# Altium footprint library Conn.Misc.PcbLib: 57 footprints (part 2 of 4)
Each footprint in its own frame and in the unit in brackets; x right, y up, seen from the top. Pads: shape width x height; smd on the part's side, far side on the other; paste and mask are expansions set on the pad; w line width, h text height; cw(c..) or ccw(c..) is an arc to the next point about the centre after c.
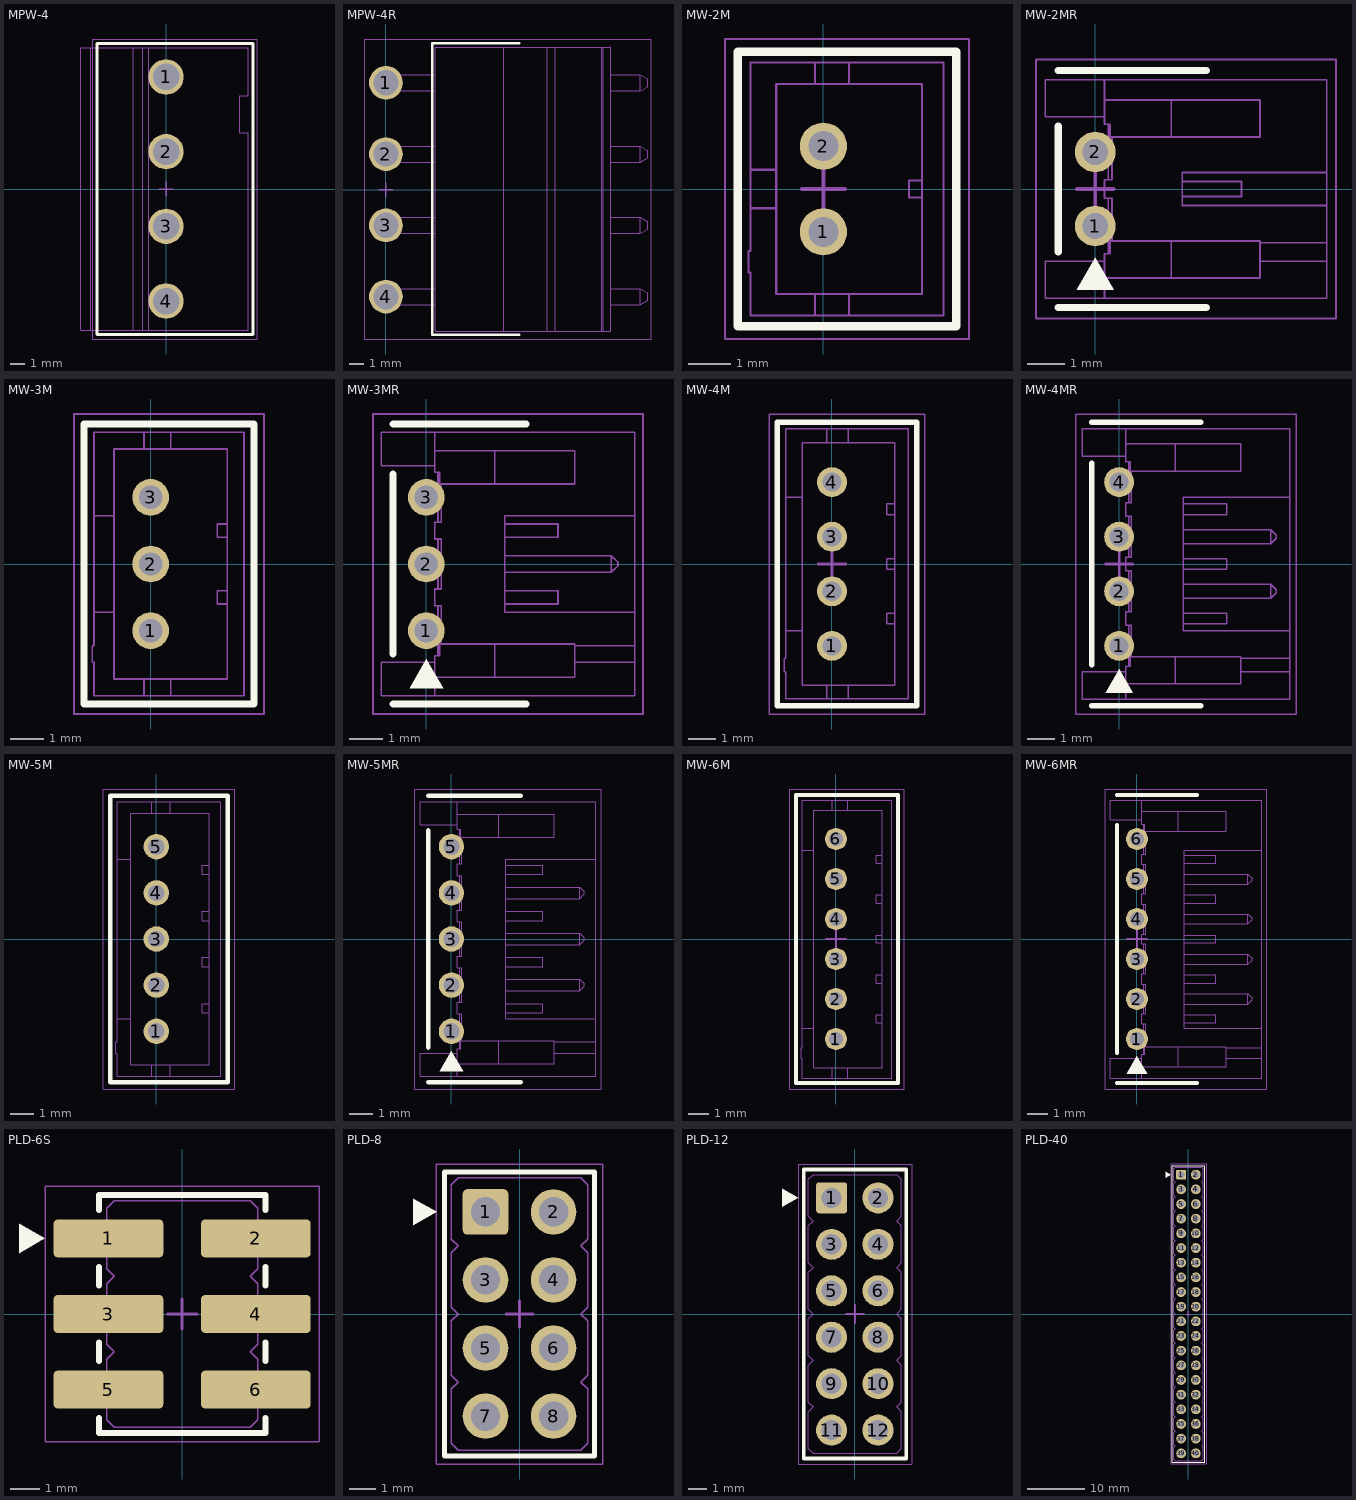
[diagram p1: the footprints below, top view; thin cyan lines are the x and y axes]

## MPW-4 [mm] "MPW Header, 4-Pin, 5.08 PItch"
height 17.5
pads (4):
  round 2.4 hole 1.8: 1(0,7.62) 2(0,2.54) 3(0,-2.54) 4(0,-7.62)
Top Overlay:
  lines w0.2: -4.7,-9.9 -4.7,9.9 5.9,9.9 5.9,-9.9 -4.7,-9.9
Bottom Overlay:
  region: 0,9.13 0.5,9.996 -0.5,9.996
Mechanical 1:
  lines w0.05: -5.11,-9.62 -5.11,9.62 ; -2.221,-9.62 -2.221,9.62 ; -1.6,-9.62 -1.6,9.62 ; -1.169,-9.62 -1.169,9.62 ; -0.57,-8.19 -0.57,-7.05 ; -0.57,-8.19 -0.279,-7.899 ; -0.57,-8.19 0.57,-8.19 ; -0.57,-7.05 -0.279,-7.341 ; -0.57,-7.05 0.57,-7.05 ; -0.57,-3.11 -0.57,-1.97 ; -0.57,-3.11 -0.279,-2.819 ; -0.57,-3.11 0.57,-3.11 ; -0.57,-1.97 -0.279,-2.261 ; -0.57,-1.97 0.57,-1.97 ; -0.57,1.97 -0.57,3.11 ; -0.57,1.97 -0.279,2.261 ; -0.57,1.97 0.57,1.97 ; -0.57,3.11 0.57,3.11 ; -0.57,3.11 -0.279,2.819 ; -0.57,7.05 -0.57,8.19 ; -0.57,7.05 -0.279,7.341 ; -0.57,7.05 0.57,7.05 ; -0.57,8.19 0.57,8.19 ; -0.57,8.19 -0.279,7.899 ; -0.279,-7.899 -0.279,-7.341 ; -0.279,-7.899 0.279,-7.899 ; -0.279,-7.341 0.279,-7.341 ; -0.279,-2.819 -0.279,-2.261 ; -0.279,-2.819 0.279,-2.819 ; -0.279,-2.261 0.279,-2.261 ; -0.279,2.261 -0.279,2.819 ; -0.279,2.261 0.279,2.261 ; -0.279,2.819 0.279,2.819 ; -0.279,7.341 -0.279,7.899 ; -0.279,7.341 0.279,7.341 ; -0.279,7.899 0.279,7.899 ; 0.279,-7.899 0.279,-7.341 ; 0.279,-7.899 0.57,-8.19 ; 0.279,-7.341 0.57,-7.05 ; 0.279,-2.819 0.279,-2.261 ; 0.279,-2.819 0.57,-3.11 ; 0.279,-2.261 0.57,-1.97 ; 0.279,2.261 0.279,2.819 ; 0.279,2.261 0.57,1.97 ; 0.279,2.819 0.57,3.11 ; 0.279,7.341 0.279,7.899 ; 0.279,7.341 0.57,7.05 ; 0.279,7.899 0.57,8.19 ; 0.57,-8.19 0.57,-7.05 ; 0.57,-3.11 0.57,-1.97 ; 0.57,1.97 0.57,3.11 ; 0.57,7.05 0.57,8.19 ; -5.8,-9.62 5.6,-9.62 5.6,3.83 5,3.83 5,6.33 5.6,6.33 5.6,9.62 -5.8,9.62 -5.8,-9.62
Mechanical 15:
  lines w0.05: -5,-10.2 6.2,-10.2 6.2,10.2 -5,10.2 -5,-10.2
  lines w0.1: -0.5,0 0.5,0 ; 0,-0.5 0,0.5
3D body "SPOX 01032-1041.STEP": height 13.85, standoff -3.6, extent -5.8,-9.62 5.6,9.62

## MPW-4R [mm] "MPW Header, 3-Pin, 5.08 PItch, Right Angle"
height 9.6
pads (4):
  round 2.4 hole 1.8: 1(0,7.62) 2(0,2.54) 3(0,-2.54) 4(0,-7.62)
Top Overlay:
  region: 0,6.59 -0.5,7.456 0.5,7.456
  lines w0.2: 9.5,-10.34 3.3,-10.34 3.3,10.44 9.5,10.44
Mechanical 1:
  lines w0.05: 3.5,-8.19 1.5,-8.19 -0.54,-8.19 cw(c-0.54,-8.16) -0.57,-8.16 -0.57,-7.08 cw(c-0.54,-7.08) -0.54,-7.05 3.5,-7.05 ; 3.5,-3.11 1.5,-3.11 -0.54,-3.11 cw(c-0.54,-3.08) -0.57,-3.08 -0.57,-2 cw(c-0.54,-2) -0.54,-1.97 3.5,-1.97 ; 3.5,1.97 1.5,1.97 -0.54,1.97 cw(c-0.54,2) -0.57,2 -0.57,3.08 cw(c-0.54,3.08) -0.54,3.11 3.5,3.11 ; 3.5,7.05 1.5,7.05 -0.54,7.05 cw(c-0.54,7.08) -0.57,7.08 -0.57,8.16 cw(c-0.54,8.16) -0.54,8.19 3.5,8.19 ; 8.4,-10.08 8.4,10.16 ; 11.513,-10.08 11.513,10.16 ; 12.072,-10.08 12.072,10.16 ; 15.398,-10.08 15.398,10.16 ; 15.474,-10.08 15.474,10.16 ; 16.026,-8.19 18.131,-8.19 ; 16.026,-7.05 18.131,-7.05 ; 16.026,-3.11 18.131,-3.11 ; 16.026,-1.97 18.131,-1.97 ; 16.026,1.97 18.131,1.97 ; 16.026,3.11 18.131,3.11 ; 16.026,7.05 18.131,7.05 ; 16.026,8.19 18.131,8.19 ; 18.131,-8.19 18.65,-7.89 18.65,-7.35 18.131,-7.05 ; 18.131,-8.19 18.131,-7.05 ; 18.131,-3.11 18.65,-2.81 18.65,-2.27 18.131,-1.97 ; 18.131,-3.11 18.131,-1.97 ; 18.131,1.97 18.65,2.27 18.65,2.81 18.131,3.11 ; 18.131,1.97 18.131,3.11 ; 18.131,7.05 18.65,7.35 18.65,7.89 18.131,8.19 ; 18.131,7.05 18.131,8.19 ; 3.5,-10.025 ccw(c3.555,-10.025) 3.555,-10.08 15.971,-10.08 ccw(c15.971,-10.025) 16.026,-10.025 16.026,10.105 ccw(c15.971,10.105) 15.971,10.16 3.555,10.16 ccw(c3.555,10.105) 3.5,10.105 3.5,-10.025
Mechanical 15:
  lines w0.05: -1.5,-10.64 18.9,-10.64 18.9,10.74 -1.5,10.74 -1.5,-10.64
  lines w0.1: -0.5,0 0.5,0 ; 0,-0.5 0,0.5
3D body "CI5504P1H00.STEP": height 9.6, standoff -3.6, extent -0.57,-10.08 18.65,10.16

## MW-2M [mm] "MW Header, 2-Pin, 2.00mm Pitch"
height 6
pads (2):
  round 1.1 hole 0.7: 1(0,-1) 2(0,1)
Top Overlay:
  lines w0.2: -2,-3.2 3.1,-3.2 3.1,3.2 -2,3.2 -2,-3.2
Bottom Overlay:
  region: 0,-1.86 -0.5,-2.726 0.5,-2.726
Mechanical 1:
  lines w0.05: -1.7,-0.45 -1.1,-0.45 ; -1.7,0.45 -1.1,0.45 ; -0.2,-2.95 -0.2,-2.45 ; -0.2,2.45 -0.2,2.95 ; 0.6,-2.95 0.6,-2.45 ; 0.6,2.45 0.6,2.95 ; 2.3,-0.2 2,-0.2 2,0.2 2.3,0.2 ; -0.25,-1.25 0.25,-1.25 ; -0.25,-1.25 -0.25,-0.75 ; -0.25,-1.25 -0.05,-1.05 ; -0.25,-0.75 0.25,-0.75 ; -0.25,-0.75 -0.05,-0.95 ; -0.25,0.75 -0.25,1.25 ; -0.25,0.75 -0.05,0.95 ; -0.25,0.75 0.25,0.75 ; -0.25,1.25 0.25,1.25 ; -0.25,1.25 -0.05,1.05 ; -0.05,-1.05 -0.05,-0.95 ; -0.05,-1.05 0.05,-1.05 ; -0.05,-0.95 0.05,-0.95 ; -0.05,0.95 -0.05,1.05 ; -0.05,0.95 0.05,0.95 ; -0.05,1.05 0.05,1.05 ; 0.05,-1.05 0.05,-0.95 ; 0.05,-1.05 0.25,-1.25 ; 0.05,-0.95 0.25,-0.75 ; 0.05,0.95 0.25,0.75 ; 0.05,0.95 0.05,1.05 ; 0.05,1.05 0.25,1.25 ; 0.25,-1.25 0.25,-0.75 ; 0.25,0.75 0.25,1.25 ; -1.75,-1.95 -1.7,-1.95 -1.7,-2.95 2.8,-2.95 2.8,2.95 -1.7,2.95 -1.7,-1.45 -1.75,-1.45 -1.75,-1.95 ; -1.1,-2.45 -1.1,2.45 2.3,2.45 2.3,-2.45 -1.1,-2.45
Mechanical 15:
  lines w0.05: -2.3,-3.5 -2.3,3.5 3.4,3.5 3.4,-3.5 -2.3,-3.5
  lines w0.1: -0.5,0 0.5,0 ; 0,-0.5 0,0.5
3D body "JST_PH_B2B-PH-K_1x02_P2.00mm_Vertical.step": height 6, standoff -3.4, extent -1.75,-2.95 2.8,2.95

## MW-2MR [mm] "MW Header, 2-Pin, 2.00mm Pitch, Right Angle Mount"
height 4.5
pads (2):
  round 1.1 hole 0.7: 1(0,-1) 2(0,1)
Top Overlay:
  region: 0,-1.86 0.5,-2.726 -0.5,-2.726
  lines w0.2: -1,-3.2 3,-3.2 ; -1,-1.7 -1,1.7 ; -1,3.2 3,3.2
Mechanical 1:
  lines w0.05: 0.25,-2.95 0.25,-1.75 0.4,-1.75 0.4,-1.4 4.45,-1.4 4.45,-2.4 0.25,-2.4 ; 0.25,-1.95 -1.35,-1.95 -1.35,-2.95 6.25,-2.95 6.25,2.95 -1.35,2.95 -1.35,1.95 0.25,1.95 ; 0.25,2.4 4.45,2.4 4.45,1.4 0.4,1.4 0.4,1.75 0.25,1.75 0.25,2.95 ; 0.35,-1.75 0.35,-0.25 ; 0.35,-1.25 -0.25,-1.25 -0.25,-0.75 0.35,-0.75 ; 0.35,0.25 0.35,1.75 ; 0.35,0.75 -0.25,0.75 -0.25,1.25 0.35,1.25 ; 0.45,-1.4 0.45,-0.25 0.25,-0.25 0.25,0.25 0.45,0.25 0.45,1.4 ; 2.05,-2.4 2.05,-1.4 ; 2.05,1.4 2.05,2.4 ; 2.35,-0.2 3.95,-0.2 3.95,0.2 2.35,0.2 ; 4.45,-1.95 6.25,-1.95 ; 4.45,-1.45 6.25,-1.45 ; 6.25,-0.45 2.35,-0.45 2.35,0.45 6.25,0.45
Mechanical 15:
  lines w0.05: -1.6,-3.5 -1.6,3.5 6.5,3.5 6.5,-3.5 -1.6,-3.5
  lines w0.1: -0.5,0 0.5,0 ; 0,-0.5 0,0.5
3D body "JST_PH_S2B-PH-K_1x02_P2.00mm_Horizontal.step": height 4.85, standoff -3.4, extent -1.35,-2.95 6.25,2.95

## MW-3M [mm] "MW Header, 3-Pin, 2.00mm Pitch"
height 6
pads (3):
  round 1.1 hole 0.7: 1(0,-2) 2(0,0) 3(0,2)
Top Overlay:
  lines w0.2: -2,-4.2 -2,4.2 3.1,4.2 3.1,-4.2 -2,-4.2
Bottom Overlay:
  region: 0,-2.86 -0.5,-3.726 0.5,-3.726
Mechanical 1:
  lines w0.05: -1.7,-1.45 -1.1,-1.45 ; -1.7,1.45 -1.1,1.45 ; -0.2,-3.95 -0.2,-3.45 ; -0.2,3.45 -0.2,3.95 ; 0.6,-3.95 0.6,-3.45 ; 0.6,3.45 0.6,3.95 ; 2.3,-1.2 2,-1.2 2,-0.8 2.3,-0.8 ; 2.3,0.8 2,0.8 2,1.2 2.3,1.2 ; -0.25,-2.25 0.25,-2.25 ; -0.25,-2.25 -0.25,-1.75 ; -0.25,-2.25 -0.05,-2.05 ; -0.25,-1.75 0.25,-1.75 ; -0.25,-1.75 -0.05,-1.95 ; -0.25,-0.25 0.25,-0.25 ; -0.25,-0.25 -0.25,0.25 ; -0.25,-0.25 -0.05,-0.05 ; -0.25,0.25 0.25,0.25 ; -0.25,0.25 -0.05,0.05 ; -0.25,1.75 0.25,1.75 ; -0.25,1.75 -0.25,2.25 ; -0.25,1.75 -0.05,1.95 ; -0.25,2.25 0.25,2.25 ; -0.25,2.25 -0.05,2.05 ; -0.05,-2.05 -0.05,-1.95 ; -0.05,-2.05 0.05,-2.05 ; -0.05,-1.95 0.05,-1.95 ; -0.05,-0.05 -0.05,0.05 ; -0.05,-0.05 0.05,-0.05 ; -0.05,0.05 0.05,0.05 ; -0.05,1.95 -0.05,2.05 ; -0.05,1.95 0.05,1.95 ; -0.05,2.05 0.05,2.05 ; 0.05,-2.05 0.25,-2.25 ; 0.05,-2.05 0.05,-1.95 ; 0.05,-1.95 0.25,-1.75 ; 0.05,-0.05 0.25,-0.25 ; 0.05,-0.05 0.05,0.05 ; 0.05,0.05 0.25,0.25 ; 0.05,1.95 0.25,1.75 ; 0.05,1.95 0.05,2.05 ; 0.05,2.05 0.25,2.25 ; 0.25,-2.25 0.25,-1.75 ; 0.25,-0.25 0.25,0.25 ; 0.25,1.75 0.25,2.25 ; -1.75,-2.95 -1.75,-2.45 -1.7,-2.45 -1.7,3.95 2.8,3.95 2.8,-3.95 -1.7,-3.95 -1.7,-2.95 -1.75,-2.95 ; -1.1,-3.45 -1.1,3.45 2.3,3.45 2.3,-3.45 -1.1,-3.45
Mechanical 15:
  lines w0.05: -2.3,-4.5 3.4,-4.5 3.4,4.5 -2.3,4.5 -2.3,-4.5
  lines w0.1: -0.5,0 0.5,0 ; 0,-0.5 0,0.5
3D body "JST_PH_B3B-PH-K_1x03_P2.00mm_Vertical.step": height 6, standoff -3.4, extent -1.75,-3.95 2.8,3.95

## MW-3MR [mm] "MW Header, 3-Pin, 2.00mm Pitch, Right Angle Mount"
height 4.5
pads (3):
  round 1.1 hole 0.7: 1(0,-2) 2(0,0) 3(0,2)
Top Overlay:
  region: 0,-2.86 0.5,-3.726 -0.5,-3.726
  lines w0.2: -1,-4.2 3,-4.2 ; -1,-2.7 -1,2.7 ; -1,4.2 3,4.2
Mechanical 1:
  lines w0.05: 0.25,-3.95 0.25,-2.75 0.4,-2.75 0.4,-2.4 4.45,-2.4 4.45,-3.4 0.25,-3.4 ; 0.25,-2.95 -1.35,-2.95 -1.35,-3.95 6.25,-3.95 6.25,3.95 -1.35,3.95 -1.35,2.95 0.25,2.95 ; 0.25,3.4 4.45,3.4 4.45,2.4 0.4,2.4 0.4,2.75 0.25,2.75 0.25,3.95 ; 0.35,-2.75 0.35,-1.25 ; 0.35,-2.25 -0.25,-2.25 -0.25,-1.75 0.35,-1.75 ; 0.35,-0.75 0.35,0.75 ; 0.35,-0.25 -0.25,-0.25 -0.25,0.25 0.35,0.25 ; 0.35,1.25 0.35,2.75 ; 0.35,1.75 -0.25,1.75 -0.25,2.25 0.35,2.25 ; 0.45,-2.4 0.45,-1.25 0.25,-1.25 0.25,-0.75 0.45,-0.75 0.45,0.75 0.25,0.75 0.25,1.25 0.45,1.25 0.45,2.4 ; 2.05,-3.4 2.05,-2.4 ; 2.05,2.4 2.05,3.4 ; 2.35,-1.2 3.95,-1.2 3.95,-0.8 2.35,-0.8 ; 2.35,-0.25 5.55,-0.25 ; 2.35,0.25 5.55,0.25 ; 2.35,0.8 3.95,0.8 3.95,1.2 2.35,1.2 ; 4.45,-2.95 6.25,-2.95 ; 4.45,-2.45 6.25,-2.45 ; 6.25,-1.45 2.35,-1.45 2.35,1.45 6.25,1.45 ; 5.55,-0.25 5.75,-0.05 5.75,0.05 5.55,0.25 ; 5.55,-0.25 5.55,0.25
Mechanical 15:
  lines w0.05: -1.6,-4.5 6.5,-4.5 6.5,4.5 -1.6,4.5 -1.6,-4.5
  lines w0.1: -0.5,0 0.5,0 ; 0,-0.5 0,0.5
3D body "JST_PH_S3B-PH-K_1x03_P2.00mm_Horizontal.step": height 4.85, standoff -3.4, extent -1.35,-3.95 6.25,3.95

## MW-4M [mm] "MW Header, 4-Pin, 2.00mm Pitch"
height 6
pads (4):
  round 1.1 hole 0.7: 1(0,-3) 2(0,-1) 3(0,1) 4(0,3)
Top Overlay:
  lines w0.2: -2,-5.2 3.1,-5.2 3.1,5.2 -2,5.2 -2,-5.2
Bottom Overlay:
  region: 0,-3.86 -0.5,-4.726 0.5,-4.726
Mechanical 1:
  lines w0.05: -1.7,-2.45 -1.1,-2.45 ; -1.7,2.45 -1.1,2.45 ; -0.2,-4.95 -0.2,-4.45 ; -0.2,4.45 -0.2,4.95 ; 0.6,-4.95 0.6,-4.45 ; 0.6,4.45 0.6,4.95 ; 2.3,-2.2 2,-2.2 2,-1.8 2.3,-1.8 ; 2.3,-0.2 2,-0.2 2,0.2 2.3,0.2 ; 2.3,1.8 2,1.8 2,2.2 2.3,2.2 ; -0.25,-3.25 -0.25,-2.75 ; -0.25,-3.25 -0.05,-3.05 ; -0.25,-3.25 0.25,-3.25 ; -0.25,-2.75 0.25,-2.75 ; -0.25,-2.75 -0.05,-2.95 ; -0.25,-1.25 0.25,-1.25 ; -0.25,-1.25 -0.25,-0.75 ; -0.25,-1.25 -0.05,-1.05 ; -0.25,-0.75 0.25,-0.75 ; -0.25,-0.75 -0.05,-0.95 ; -0.25,0.75 -0.25,1.25 ; -0.25,0.75 -0.05,0.95 ; -0.25,0.75 0.25,0.75 ; -0.25,1.25 0.25,1.25 ; -0.25,1.25 -0.05,1.05 ; -0.25,2.75 -0.25,3.25 ; -0.25,2.75 -0.05,2.95 ; -0.25,2.75 0.25,2.75 ; -0.25,3.25 0.25,3.25 ; -0.25,3.25 -0.05,3.05 ; -0.05,-3.05 0.05,-3.05 ; -0.05,-3.05 -0.05,-2.95 ; -0.05,-2.95 0.05,-2.95 ; -0.05,-1.05 0.05,-1.05 ; -0.05,-1.05 -0.05,-0.95 ; -0.05,-0.95 0.05,-0.95 ; -0.05,0.95 -0.05,1.05 ; -0.05,0.95 0.05,0.95 ; -0.05,1.05 0.05,1.05 ; -0.05,2.95 0.05,2.95 ; -0.05,2.95 -0.05,3.05 ; -0.05,3.05 0.05,3.05 ; 0.05,-3.05 0.05,-2.95 ; 0.05,-3.05 0.25,-3.25 ; 0.05,-2.95 0.25,-2.75 ; 0.05,-1.05 0.25,-1.25 ; 0.05,-1.05 0.05,-0.95 ; 0.05,-0.95 0.25,-0.75 ; 0.05,0.95 0.05,1.05 ; 0.05,0.95 0.25,0.75 ; 0.05,1.05 0.25,1.25 ; 0.05,2.95 0.25,2.75 ; 0.05,2.95 0.05,3.05 ; 0.05,3.05 0.25,3.25 ; 0.25,-3.25 0.25,-2.75 ; 0.25,-1.25 0.25,-0.75 ; 0.25,0.75 0.25,1.25 ; 0.25,2.75 0.25,3.25 ; -1.75,-3.95 -1.7,-3.95 -1.7,-4.95 2.8,-4.95 2.8,4.95 -1.7,4.95 -1.7,-3.45 -1.75,-3.45 -1.75,-3.95 ; -1.1,-4.45 2.3,-4.45 2.3,4.45 -1.1,4.45 -1.1,-4.45
Mechanical 15:
  lines w0.05: -2.3,-5.5 -2.3,5.5 3.4,5.5 3.4,-5.5 -2.3,-5.5
  lines w0.1: -0.5,0 0.5,0 ; 0,-0.5 0,0.5
3D body "JST_PH_B4B-PH-K_1x04_P2.00mm_Vertical.step": height 6, standoff -3.4, extent -1.75,-4.95 2.8,4.95

## MW-4MR [mm] "MW Header, 4-Pin, 2.00mm Pitch, Right-Angle"
height 4.5
pads (4):
  round 1.1 hole 0.7: 1(0,-3) 2(0,-1) 3(0,1) 4(0,3)
Top Overlay:
  region: 0,-3.86 0.5,-4.726 -0.5,-4.726
  lines w0.2: -1,-5.2 3,-5.2 ; -1,-3.7 -1,3.7 ; -1,5.2 3,5.2
Mechanical 1:
  lines w0.05: 0.25,-4.95 0.25,-3.75 0.4,-3.75 0.4,-3.4 4.45,-3.4 4.45,-4.4 0.25,-4.4 ; 0.25,-3.95 -1.35,-3.95 -1.35,-4.95 6.25,-4.95 6.25,4.95 -1.35,4.95 -1.35,3.95 0.25,3.95 ; 0.25,4.4 4.45,4.4 4.45,3.4 0.4,3.4 0.4,3.75 0.25,3.75 0.25,4.95 ; 0.35,-3.75 0.35,-2.25 ; 0.35,-3.25 -0.25,-3.25 -0.25,-2.75 0.35,-2.75 ; 0.35,-1.75 0.35,-0.25 ; 0.35,-1.25 -0.25,-1.25 -0.25,-0.75 0.35,-0.75 ; 0.35,0.25 0.35,1.75 ; 0.35,0.75 -0.25,0.75 -0.25,1.25 0.35,1.25 ; 0.35,2.25 0.35,3.75 ; 0.35,2.75 -0.25,2.75 -0.25,3.25 0.35,3.25 ; 0.45,-3.4 0.45,-2.25 0.25,-2.25 0.25,-1.75 0.45,-1.75 0.45,-0.25 0.25,-0.25 0.25,0.25 0.45,0.25 0.45,1.75 0.25,1.75 0.25,2.25 0.45,2.25 0.45,3.4 ; 2.05,-4.4 2.05,-3.4 ; 2.05,3.4 2.05,4.4 ; 2.35,-2.2 3.95,-2.2 3.95,-1.8 2.35,-1.8 ; 2.35,-1.25 5.55,-1.25 ; 2.35,-0.75 5.55,-0.75 ; 2.35,-0.2 3.95,-0.2 3.95,0.2 2.35,0.2 ; 2.35,0.75 5.55,0.75 ; 2.35,1.25 5.55,1.25 ; 2.35,1.8 3.95,1.8 3.95,2.2 2.35,2.2 ; 4.45,-3.95 6.25,-3.95 ; 4.45,-3.45 6.25,-3.45 ; 6.25,-2.45 2.35,-2.45 2.35,2.45 6.25,2.45 ; 5.55,-1.25 5.75,-1.05 5.75,-0.95 5.55,-0.75 ; 5.55,-1.25 5.55,-0.75 ; 5.55,0.75 5.75,0.95 5.75,1.05 5.55,1.25 ; 5.55,0.75 5.55,1.25
Mechanical 15:
  lines w0.05: -1.6,-5.5 -1.6,5.5 6.5,5.5 6.5,-5.5 -1.6,-5.5
  lines w0.1: -0.5,0 0.5,0 ; 0,-0.5 0,0.5
3D body "JST_PH_S4B-PH-K_1x04_P2.00mm_Horizontal.step": height 4.85, standoff -3.4, extent -1.35,-4.95 6.25,4.95

## MW-5M [mm] "MW Header, 5-Pin, 2.00mm Pitch"
height 6
pads (5):
  round 1.1 hole 0.7: 1(0,-4) 2(0,-2) 3(0,0) 4(0,2) 5(0,4)
Top Overlay:
  lines w0.2: -2,-6.2 -2,6.2 3.1,6.2 3.1,-6.2 -2,-6.2
Bottom Overlay:
  region: 0,-4.86 -0.5,-5.726 0.5,-5.726
Mechanical 1:
  lines w0.05: -1.7,-3.45 -1.1,-3.45 ; -1.7,3.45 -1.1,3.45 ; -0.2,-5.95 -0.2,-5.45 ; -0.2,5.45 -0.2,5.95 ; 0.6,-5.95 0.6,-5.45 ; 0.6,5.45 0.6,5.95 ; 2.3,-3.2 2,-3.2 2,-2.8 2.3,-2.8 ; 2.3,-1.2 2,-1.2 2,-0.8 2.3,-0.8 ; 2.3,0.8 2,0.8 2,1.2 2.3,1.2 ; 2.3,2.8 2,2.8 2,3.2 2.3,3.2 ; -0.25,-4.25 0.25,-4.25 ; -0.25,-4.25 -0.25,-3.75 ; -0.25,-4.25 -0.05,-4.05 ; -0.25,-3.75 0.25,-3.75 ; -0.25,-3.75 -0.05,-3.95 ; -0.25,-2.25 -0.25,-1.75 ; -0.25,-2.25 -0.05,-2.05 ; -0.25,-2.25 0.25,-2.25 ; -0.25,-1.75 0.25,-1.75 ; -0.25,-1.75 -0.05,-1.95 ; -0.25,-0.25 -0.25,0.25 ; -0.25,-0.25 -0.05,-0.05 ; -0.25,-0.25 0.25,-0.25 ; -0.25,0.25 0.25,0.25 ; -0.25,0.25 -0.05,0.05 ; -0.25,1.75 -0.25,2.25 ; -0.25,1.75 -0.05,1.95 ; -0.25,1.75 0.25,1.75 ; -0.25,2.25 0.25,2.25 ; -0.25,2.25 -0.05,2.05 ; -0.25,3.75 -0.25,4.25 ; -0.25,3.75 -0.05,3.95 ; -0.25,3.75 0.25,3.75 ; -0.25,4.25 0.25,4.25 ; -0.25,4.25 -0.05,4.05 ; -0.05,-4.05 0.05,-4.05 ; -0.05,-4.05 -0.05,-3.95 ; -0.05,-3.95 0.05,-3.95 ; -0.05,-2.05 -0.05,-1.95 ; -0.05,-2.05 0.05,-2.05 ; -0.05,-1.95 0.05,-1.95 ; -0.05,-0.05 -0.05,0.05 ; -0.05,-0.05 0.05,-0.05 ; -0.05,0.05 0.05,0.05 ; -0.05,1.95 0.05,1.95 ; -0.05,1.95 -0.05,2.05 ; -0.05,2.05 0.05,2.05 ; -0.05,3.95 0.05,3.95 ; -0.05,3.95 -0.05,4.05 ; -0.05,4.05 0.05,4.05 ; 0.05,-4.05 0.25,-4.25 ; 0.05,-4.05 0.05,-3.95 ; 0.05,-3.95 0.25,-3.75 ; 0.05,-2.05 0.05,-1.95 ; 0.05,-2.05 0.25,-2.25 ; 0.05,-1.95 0.25,-1.75 ; 0.05,-0.05 0.05,0.05 ; 0.05,-0.05 0.25,-0.25 ; 0.05,0.05 0.25,0.25 ; 0.05,1.95 0.25,1.75 ; 0.05,1.95 0.05,2.05 ; 0.05,2.05 0.25,2.25 ; 0.05,3.95 0.25,3.75 ; 0.05,3.95 0.05,4.05 ; 0.05,4.05 0.25,4.25 ; 0.25,-4.25 0.25,-3.75 ; 0.25,-2.25 0.25,-1.75 ; 0.25,-0.25 0.25,0.25 ; 0.25,1.75 0.25,2.25 ; 0.25,3.75 0.25,4.25 ; -1.75,-4.95 -1.7,-4.95 -1.7,-5.95 2.8,-5.95 2.8,5.95 -1.7,5.95 -1.7,-4.45 -1.75,-4.45 -1.75,-4.95 ; -1.1,-5.45 2.3,-5.45 2.3,5.45 -1.1,5.45 -1.1,-5.45
Mechanical 15:
  lines w0.05: -2.3,-6.5 3.4,-6.5 3.4,6.5 -2.3,6.5 -2.3,-6.5
  lines w0.1: -0.5,0 0.5,0 ; 0,-0.5 0,0.5
3D body "JST_PH_B5B-PH-K_1x05_P2.00mm_Vertical.step": height 6, standoff -3.4, extent -1.75,-5.95 2.8,5.95

## MW-5MR [mm] "MW Header, 5-Pin, 2.00mm Pitch, Right Angle Mount"
height 4.5
pads (5):
  round 1.1 hole 0.7: 1(0,-4) 2(0,-2) 3(0,0) 4(0,2) 5(0,4)
Top Overlay:
  region: 0,-4.86 0.5,-5.726 -0.5,-5.726
  lines w0.2: -1,-6.2 3,-6.2 ; -1,-4.7 -1,4.7 ; -1,6.2 3,6.2
Mechanical 1:
  lines w0.05: 0.25,-5.95 0.25,-4.75 0.4,-4.75 0.4,-4.4 4.45,-4.4 4.45,-5.4 0.25,-5.4 ; 0.25,-4.95 -1.35,-4.95 -1.35,-5.95 6.25,-5.95 6.25,5.95 -1.35,5.95 -1.35,4.95 0.25,4.95 ; 0.25,5.4 4.45,5.4 4.45,4.4 0.4,4.4 0.4,4.75 0.25,4.75 0.25,5.95 ; 0.35,-4.75 0.35,-3.25 ; 0.35,-4.25 -0.25,-4.25 -0.25,-3.75 0.35,-3.75 ; 0.35,-2.75 0.35,-1.25 ; 0.35,-2.25 -0.25,-2.25 -0.25,-1.75 0.35,-1.75 ; 0.35,-0.75 0.35,0.75 ; 0.35,-0.25 -0.25,-0.25 -0.25,0.25 0.35,0.25 ; 0.35,1.25 0.35,2.75 ; 0.35,1.75 -0.25,1.75 -0.25,2.25 0.35,2.25 ; 0.35,3.25 0.35,4.75 ; 0.35,3.75 -0.25,3.75 -0.25,4.25 0.35,4.25 ; 0.45,-4.4 0.45,-3.25 0.25,-3.25 0.25,-2.75 0.45,-2.75 0.45,-1.25 0.25,-1.25 0.25,-0.75 0.45,-0.75 0.45,0.75 0.25,0.75 0.25,1.25 0.45,1.25 0.45,2.75 0.25,2.75 0.25,3.25 0.45,3.25 0.45,4.4 ; 2.05,-5.4 2.05,-4.4 ; 2.05,4.4 2.05,5.4 ; 2.35,-3.2 3.95,-3.2 3.95,-2.8 2.35,-2.8 ; 2.35,-2.25 5.55,-2.25 ; 2.35,-1.75 5.55,-1.75 ; 2.35,-1.2 3.95,-1.2 3.95,-0.8 2.35,-0.8 ; 2.35,-0.25 5.55,-0.25 ; 2.35,0.25 5.55,0.25 ; 2.35,0.8 3.95,0.8 3.95,1.2 2.35,1.2 ; 2.35,1.75 5.55,1.75 ; 2.35,2.25 5.55,2.25 ; 2.35,2.8 3.95,2.8 3.95,3.2 2.35,3.2 ; 4.45,-4.95 6.25,-4.95 ; 4.45,-4.45 6.25,-4.45 ; 6.25,-3.45 2.35,-3.45 2.35,3.45 6.25,3.45 ; 5.55,-2.25 5.55,-1.75 ; 5.55,-2.25 5.75,-2.05 5.75,-1.95 5.55,-1.75 ; 5.55,-0.25 5.75,-0.05 5.75,0.05 5.55,0.25 ; 5.55,-0.25 5.55,0.25 ; 5.55,1.75 5.75,1.95 5.75,2.05 5.55,2.25 ; 5.55,1.75 5.55,2.25
Mechanical 15:
  lines w0.05: -1.6,-6.5 6.5,-6.5 6.5,6.5 -1.6,6.5 -1.6,-6.5
  lines w0.1: -0.5,0 0.5,0 ; 0,-0.5 0,0.5
3D body "JST_PH_S5B-PH-K_1x05_P2.00mm_Horizontal.step": height 4.85, standoff -3.4, extent -1.35,-5.95 6.25,5.95

## MW-6M [mm] "MW Header, 6-Pin, 2.00mm Pitch"
height 6
pads (6):
  round 1.1 hole 0.7: 1(0,-5) 2(0,-3) 3(0,-1) 4(0,1) 5(0,3) 6(0,5)
Top Overlay:
  lines w0.2: -2,-7.2 -2,7.2 3.1,7.2 3.1,-7.2 -2,-7.2
Bottom Overlay:
  region: 0,-5.86 -0.5,-6.726 0.5,-6.726
Mechanical 1:
  lines w0.05: -1.7,-4.45 -1.1,-4.45 ; -1.7,4.45 -1.1,4.45 ; -0.2,-6.95 -0.2,-6.45 ; -0.2,6.45 -0.2,6.95 ; 0.6,-6.95 0.6,-6.45 ; 0.6,6.45 0.6,6.95 ; 2.3,-4.2 2,-4.2 2,-3.8 2.3,-3.8 ; 2.3,-2.2 2,-2.2 2,-1.8 2.3,-1.8 ; 2.3,-0.2 2,-0.2 2,0.2 2.3,0.2 ; 2.3,1.8 2,1.8 2,2.2 2.3,2.2 ; 2.3,3.8 2,3.8 2,4.2 2.3,4.2 ; -0.25,-5.25 0.25,-5.25 ; -0.25,-5.25 -0.25,-4.75 ; -0.25,-5.25 -0.05,-5.05 ; -0.25,-4.75 0.25,-4.75 ; -0.25,-4.75 -0.05,-4.95 ; -0.25,-3.25 0.25,-3.25 ; -0.25,-3.25 -0.25,-2.75 ; -0.25,-3.25 -0.05,-3.05 ; -0.25,-2.75 0.25,-2.75 ; -0.25,-2.75 -0.05,-2.95 ; -0.25,-1.25 0.25,-1.25 ; -0.25,-1.25 -0.25,-0.75 ; -0.25,-1.25 -0.05,-1.05 ; -0.25,-0.75 0.25,-0.75 ; -0.25,-0.75 -0.05,-0.95 ; -0.25,0.75 -0.25,1.25 ; -0.25,0.75 -0.05,0.95 ; -0.25,0.75 0.25,0.75 ; -0.25,1.25 0.25,1.25 ; -0.25,1.25 -0.05,1.05 ; -0.25,2.75 -0.25,3.25 ; -0.25,2.75 -0.05,2.95 ; -0.25,2.75 0.25,2.75 ; -0.25,3.25 0.25,3.25 ; -0.25,3.25 -0.05,3.05 ; -0.25,4.75 -0.25,5.25 ; -0.25,4.75 -0.05,4.95 ; -0.25,4.75 0.25,4.75 ; -0.25,5.25 0.25,5.25 ; -0.25,5.25 -0.05,5.05 ; -0.05,-5.05 0.05,-5.05 ; -0.05,-5.05 -0.05,-4.95 ; -0.05,-4.95 0.05,-4.95 ; -0.05,-3.05 0.05,-3.05 ; -0.05,-3.05 -0.05,-2.95 ; -0.05,-2.95 0.05,-2.95 ; -0.05,-1.05 0.05,-1.05 ; -0.05,-1.05 -0.05,-0.95 ; -0.05,-0.95 0.05,-0.95 ; -0.05,0.95 -0.05,1.05 ; -0.05,0.95 0.05,0.95 ; -0.05,1.05 0.05,1.05 ; -0.05,2.95 -0.05,3.05 ; -0.05,2.95 0.05,2.95 ; -0.05,3.05 0.05,3.05 ; -0.05,4.95 -0.05,5.05 ; -0.05,4.95 0.05,4.95 ; -0.05,5.05 0.05,5.05 ; 0.05,-5.05 0.05,-4.95 ; 0.05,-5.05 0.25,-5.25 ; 0.05,-4.95 0.25,-4.75 ; 0.05,-3.05 0.25,-3.25 ; 0.05,-3.05 0.05,-2.95 ; 0.05,-2.95 0.25,-2.75 ; 0.05,-1.05 0.05,-0.95 ; 0.05,-1.05 0.25,-1.25 ; 0.05,-0.95 0.25,-0.75 ; 0.05,0.95 0.05,1.05 ; 0.05,0.95 0.25,0.75 ; 0.05,1.05 0.25,1.25 ; 0.05,2.95 0.05,3.05 ; 0.05,2.95 0.25,2.75 ; 0.05,3.05 0.25,3.25 ; 0.05,4.95 0.25,4.75 ; 0.05,4.95 0.05,5.05 ; 0.05,5.05 0.25,5.25 ; 0.25,-5.25 0.25,-4.75 ; 0.25,-3.25 0.25,-2.75 ; 0.25,-1.25 0.25,-0.75 ; 0.25,0.75 0.25,1.25 ; 0.25,2.75 0.25,3.25 ; 0.25,4.75 0.25,5.25 ; -1.75,-5.95 -1.75,-5.45 -1.7,-5.45 -1.7,6.95 2.8,6.95 2.8,-6.95 -1.7,-6.95 -1.7,-5.95 -1.75,-5.95 ; -1.1,-6.45 -1.1,6.45 2.3,6.45 2.3,-6.45 -1.1,-6.45
Mechanical 15:
  lines w0.05: -2.3,-7.5 3.4,-7.5 3.4,7.5 -2.3,7.5 -2.3,-7.5
  lines w0.1: -0.5,0 0.5,0 ; 0,-0.5 0,0.5
3D body "JST_PH_B6B-PH-K_1x06_P2.00mm_Vertical.step": height 6, standoff -3.4, extent -1.75,-6.95 2.8,6.95

## MW-6MR [mm] "MW Header, 6-Pin, 2.00mm Pitch, Right Angle Mount"
height 4.5
pads (6):
  round 1.1 hole 0.7: 1(0,-5) 2(0,-3) 3(0,-1) 4(0,1) 5(0,3) 6(0,5)
Top Overlay:
  region: 0,-5.86 0.5,-6.726 -0.5,-6.726
  lines w0.2: -1,-7.2 3,-7.2 ; -1,-5.7 -1,5.7 ; -1,7.2 3,7.2
Mechanical 1:
  lines w0.05: 0.25,-6.95 0.25,-5.75 0.4,-5.75 0.4,-5.4 4.45,-5.4 4.45,-6.4 0.25,-6.4 ; 0.25,-5.95 -1.35,-5.95 -1.35,-6.95 6.25,-6.95 6.25,6.95 -1.35,6.95 -1.35,5.95 0.25,5.95 ; 0.25,6.4 4.45,6.4 4.45,5.4 0.4,5.4 0.4,5.75 0.25,5.75 0.25,6.95 ; 0.35,-5.75 0.35,-4.25 ; 0.35,-5.25 -0.25,-5.25 -0.25,-4.75 0.35,-4.75 ; 0.35,-3.75 0.35,-2.25 ; 0.35,-3.25 -0.25,-3.25 -0.25,-2.75 0.35,-2.75 ; 0.35,-1.75 0.35,-0.25 ; 0.35,-1.25 -0.25,-1.25 -0.25,-0.75 0.35,-0.75 ; 0.35,0.25 0.35,1.75 ; 0.35,0.75 -0.25,0.75 -0.25,1.25 0.35,1.25 ; 0.35,2.25 0.35,3.75 ; 0.35,2.75 -0.25,2.75 -0.25,3.25 0.35,3.25 ; 0.35,4.25 0.35,5.75 ; 0.35,4.75 -0.25,4.75 -0.25,5.25 0.35,5.25 ; 0.45,-5.4 0.45,-4.25 0.25,-4.25 0.25,-3.75 0.45,-3.75 0.45,-2.25 0.25,-2.25 0.25,-1.75 0.45,-1.75 0.45,-0.25 0.25,-0.25 0.25,0.25 0.45,0.25 0.45,1.75 0.25,1.75 0.25,2.25 0.45,2.25 0.45,3.75 0.25,3.75 0.25,4.25 0.45,4.25 0.45,5.4 ; 2.05,-6.4 2.05,-5.4 ; 2.05,5.4 2.05,6.4 ; 2.35,-4.2 3.95,-4.2 3.95,-3.8 2.35,-3.8 ; 2.35,-3.25 5.55,-3.25 ; 2.35,-2.75 5.55,-2.75 ; 2.35,-2.2 3.95,-2.2 3.95,-1.8 2.35,-1.8 ; 2.35,-1.25 5.55,-1.25 ; 2.35,-0.75 5.55,-0.75 ; 2.35,-0.2 3.95,-0.2 3.95,0.2 2.35,0.2 ; 2.35,0.75 5.55,0.75 ; 2.35,1.25 5.55,1.25 ; 2.35,1.8 3.95,1.8 3.95,2.2 2.35,2.2 ; 2.35,2.75 5.55,2.75 ; 2.35,3.25 5.55,3.25 ; 2.35,3.8 3.95,3.8 3.95,4.2 2.35,4.2 ; 4.45,-5.95 6.25,-5.95 ; 4.45,-5.45 6.25,-5.45 ; 6.25,-4.45 2.35,-4.45 2.35,4.45 6.25,4.45 ; 5.55,-3.25 5.75,-3.05 5.75,-2.95 5.55,-2.75 ; 5.55,-3.25 5.55,-2.75 ; 5.55,-1.25 5.75,-1.05 5.75,-0.95 5.55,-0.75 ; 5.55,-1.25 5.55,-0.75 ; 5.55,0.75 5.75,0.95 5.75,1.05 5.55,1.25 ; 5.55,0.75 5.55,1.25 ; 5.55,2.75 5.75,2.95 5.75,3.05 5.55,3.25 ; 5.55,2.75 5.55,3.25
Mechanical 15:
  lines w0.05: -1.6,-7.5 6.5,-7.5 6.5,7.5 -1.6,7.5 -1.6,-7.5
  lines w0.1: -0.5,0 0.5,0 ; 0,-0.5 0,0.5
3D body "JST_PH_S6B-PH-K_1x06_P2.00mm_Horizontal.step": height 4.85, standoff -3.4, extent -1.35,-6.95 6.25,6.95

## PLD-6S [mil] "PLD Header, 2.54mm Pitch, 6-Lead, Surface Mount"
height 366.14
pads (6):
  rrect20% 145x50 smd: 1(-97.5,100) 2(97.5,100) 3(-97.5,0) 4(97.5,0) 5(-97.5,-100) 6(97.5,-100)
Top Overlay:
  region: -181.81,100 -215.91,119.69 -215.91,80.31
  lines w7.87: -110.24,-137.8 -110.24,-157.48 110.24,-157.48 110.24,-137.8 ; -110.24,-62.2 -110.24,-37.8 ; -110.24,37.8 -110.24,62.2 ; -110.24,137.8 -110.24,157.48 110.24,157.48 110.24,137.8 ; 110.24,-62.2 110.24,-37.8 ; 110.24,37.8 110.24,62.2
Mechanical 1:
  lines w1.97: -100,-112.6 -142.13,-112.6 ; -100,-87.4 -142.13,-87.4 ; -100,-12.6 -142.13,-12.6 ; -100,12.6 -142.13,12.6 ; -100,87.4 -142.13,87.4 ; -100,112.6 -142.13,112.6 ; 100,-112.6 142.13,-112.6 ; 100,-87.4 142.13,-87.4 ; 100,-12.6 142.13,-12.6 ; 100,12.6 142.13,12.6 ; 100,87.4 142.13,87.4 ; 100,112.6 142.13,112.6 ; -142.13,-112.6 -148.43,-106.3 -148.43,-93.7 -142.13,-87.4 ; -142.13,-112.6 -142.13,-87.4 ; -142.13,-12.6 -148.43,-6.3 -148.43,6.3 -142.13,12.6 ; -142.13,-12.6 -142.13,12.6 ; -142.13,87.4 -148.43,93.7 -148.43,106.3 -142.13,112.6 ; -142.13,87.4 -142.13,112.6 ; -62.6,-112.6 -62.6,-87.4 ; -62.6,-112.6 -56.3,-106.3 ; -62.6,-112.6 -37.4,-112.6 ; -62.6,-87.4 -37.4,-87.4 ; -62.6,-87.4 -56.3,-93.7 ; -62.6,-12.6 -62.6,12.6 ; -62.6,-12.6 -56.3,-6.3 ; -62.6,-12.6 -37.4,-12.6 ; -62.6,12.6 -37.4,12.6 ; -62.6,12.6 -56.3,6.3 ; -62.6,87.4 -37.4,87.4 ; -62.6,87.4 -62.6,112.6 ; -62.6,87.4 -56.3,93.7 ; -62.6,112.6 -37.4,112.6 ; -62.6,112.6 -56.3,106.3 ; -56.3,-106.3 -56.3,-93.7 ; -56.3,-106.3 -43.7,-106.3 ; -56.3,-93.7 -43.7,-93.7 ; -56.3,-6.3 -56.3,6.3 ; -56.3,-6.3 -43.7,-6.3 ; -56.3,6.3 -43.7,6.3 ; -56.3,93.7 -56.3,106.3 ; -56.3,93.7 -43.7,93.7 ; -56.3,106.3 -43.7,106.3 ; -43.7,-106.3 -37.4,-112.6 ; -43.7,-106.3 -43.7,-93.7 ; -43.7,-93.7 -37.4,-87.4 ; -43.7,-6.3 -37.4,-12.6 ; -43.7,-6.3 -43.7,6.3 ; -43.7,6.3 -37.4,12.6 ; -43.7,93.7 -37.4,87.4 ; -43.7,93.7 -43.7,106.3 ; -43.7,106.3 -37.4,112.6 ; -37.4,-112.6 -37.4,-87.4 ; -37.4,-12.6 -37.4,12.6 ; -37.4,87.4 -37.4,112.6 ; 37.4,-112.6 37.4,-87.4 ; 37.4,-112.6 43.7,-106.3 ; 37.4,-112.6 62.6,-112.6 ; 37.4,-87.4 62.6,-87.4 ; 37.4,-87.4 43.7,-93.7 ; 37.4,-12.6 37.4,12.6 ; 37.4,-12.6 43.7,-6.3 ; 37.4,-12.6 62.6,-12.6 ; 37.4,12.6 62.6,12.6 ; 37.4,12.6 43.7,6.3 ; 37.4,87.4 37.4,112.6 ; 37.4,87.4 43.7,93.7 ; 37.4,87.4 62.6,87.4 ; 37.4,112.6 62.6,112.6 ; 37.4,112.6 43.7,106.3 ; 43.7,-106.3 56.3,-106.3 ; 43.7,-106.3 43.7,-93.7 ; 43.7,-93.7 56.3,-93.7 ; 43.7,-6.3 56.3,-6.3 ; 43.7,-6.3 43.7,6.3 ; 43.7,6.3 56.3,6.3 ; 43.7,93.7 56.3,93.7 ; 43.7,93.7 43.7,106.3 ; 43.7,106.3 56.3,106.3 ; 56.3,-106.3 62.6,-112.6 ; 56.3,-106.3 56.3,-93.7 ; 56.3,-93.7 62.6,-87.4 ; 56.3,-6.3 62.6,-12.6 ; 56.3,-6.3 56.3,6.3 ; 56.3,6.3 62.6,12.6 ; 56.3,93.7 62.6,87.4 ; 56.3,93.7 56.3,106.3 ; 56.3,106.3 62.6,112.6 ; 62.6,-112.6 62.6,-87.4 ; 62.6,-12.6 62.6,12.6 ; 62.6,87.4 62.6,112.6 ; 142.13,-112.6 148.43,-106.3 148.43,-93.7 142.13,-87.4 ; 142.13,-112.6 142.13,-87.4 ; 142.13,-12.6 142.13,12.6 ; 142.13,-12.6 148.43,-6.3 148.43,6.3 142.13,12.6 ; 142.13,87.4 142.13,112.6 ; 142.13,87.4 148.43,93.7 148.43,106.3 142.13,112.6 ; -100,-140 -100,-60 -90,-50 -100,-40 -100,40 -90,50 -100,60 -100,140 -90,150 90,150 100,140 100,60 90,50 100,40 100,-40 90,-50 100,-60 100,-140 90,-150 -90,-150 -100,-140
Mechanical 15:
  lines w1.97: -181.1,-169.29 181.1,-169.29 181.1,169.29 -181.1,169.29 -181.1,-169.29
  lines w3.94: -19.68,0 19.68,0 ; 0,-19.68 0,19.68
3D body "PinHeader_2x03_P2.54mm_Vertical_SMD.step": height 366.14, standoff 0, extent -148.43,-150 148.43,150

## PLD-8 [mm] "PLD Header, 2.54mm Pitch, 8-Leads"
height 8.54
pads (8):
  rrect20% 1.7x1.7 hole 1.1: 1(-1.27,3.81)
  round 1.7 hole 1.1: 2(1.27,3.81) 3(-1.27,1.27) 4(1.27,1.27) 5(-1.27,-1.27) 6(1.27,-1.27) 7(-1.27,-3.81) 8(1.27,-3.81)
Top Overlay:
  region: -3.095,3.81 -3.961,4.31 -3.961,3.31
  lines w0.2: -2.8,-5.3 2.8,-5.3 2.8,5.3 -2.8,5.3 -2.8,-5.3
Mechanical 1:
  lines w0.05: -1.59,-4.13 -1.43,-3.97 ; -1.59,-4.13 -1.59,-3.49 ; -1.59,-4.13 -0.95,-4.13 ; -1.59,-3.49 -1.43,-3.65 ; -1.59,-3.49 -0.95,-3.49 ; -1.59,-1.59 -0.95,-1.59 ; -1.59,-1.59 -1.43,-1.43 ; -1.59,-1.59 -1.59,-0.95 ; -1.59,-0.95 -1.43,-1.11 ; -1.59,-0.95 -0.95,-0.95 ; -1.59,0.95 -0.95,0.95 ; -1.59,0.95 -1.43,1.11 ; -1.59,0.95 -1.59,1.59 ; -1.59,1.59 -1.43,1.43 ; -1.59,1.59 -0.95,1.59 ; -1.59,3.49 -0.95,3.49 ; -1.59,3.49 -1.43,3.65 ; -1.59,3.49 -1.59,4.13 ; -1.59,4.13 -1.43,3.97 ; -1.59,4.13 -0.95,4.13 ; -1.43,-3.97 -1.11,-3.97 ; -1.43,-3.97 -1.43,-3.65 ; -1.43,-3.65 -1.11,-3.65 ; -1.43,-1.43 -1.11,-1.43 ; -1.43,-1.43 -1.43,-1.11 ; -1.43,-1.11 -1.11,-1.11 ; -1.43,1.11 -1.11,1.11 ; -1.43,1.11 -1.43,1.43 ; -1.43,1.43 -1.11,1.43 ; -1.43,3.65 -1.11,3.65 ; -1.43,3.65 -1.43,3.97 ; -1.43,3.97 -1.11,3.97 ; -1.11,-3.97 -1.11,-3.65 ; -1.11,-3.97 -0.95,-4.13 ; -1.11,-3.65 -0.95,-3.49 ; -1.11,-1.43 -1.11,-1.11 ; -1.11,-1.43 -0.95,-1.59 ; -1.11,-1.11 -0.95,-0.95 ; -1.11,1.11 -1.11,1.43 ; -1.11,1.11 -0.95,0.95 ; -1.11,1.43 -0.95,1.59 ; -1.11,3.65 -1.11,3.97 ; -1.11,3.65 -0.95,3.49 ; -1.11,3.97 -0.95,4.13 ; -0.95,-4.13 -0.95,-3.49 ; -0.95,-1.59 -0.95,-0.95 ; -0.95,0.95 -0.95,1.59 ; -0.95,3.49 -0.95,4.13 ; 0.95,-4.13 1.59,-4.13 ; 0.95,-4.13 1.11,-3.97 ; 0.95,-4.13 0.95,-3.49 ; 0.95,-3.49 1.11,-3.65 ; 0.95,-3.49 1.59,-3.49 ; 0.95,-1.59 1.59,-1.59 ; 0.95,-1.59 1.11,-1.43 ; 0.95,-1.59 0.95,-0.95 ; 0.95,-0.95 1.11,-1.11 ; 0.95,-0.95 1.59,-0.95 ; 0.95,0.95 1.59,0.95 ; 0.95,0.95 1.11,1.11 ; 0.95,0.95 0.95,1.59 ; 0.95,1.59 1.11,1.43 ; 0.95,1.59 1.59,1.59 ; 0.95,3.49 1.59,3.49 ; 0.95,3.49 1.11,3.65 ; 0.95,3.49 0.95,4.13 ; 0.95,4.13 1.11,3.97 ; 0.95,4.13 1.59,4.13 ; 1.11,-3.97 1.43,-3.97 ; 1.11,-3.97 1.11,-3.65 ; 1.11,-3.65 1.43,-3.65 ; 1.11,-1.43 1.43,-1.43 ; 1.11,-1.43 1.11,-1.11 ; 1.11,-1.11 1.43,-1.11 ; 1.11,1.11 1.43,1.11 ; 1.11,1.11 1.11,1.43 ; 1.11,1.43 1.43,1.43 ; 1.11,3.65 1.43,3.65 ; 1.11,3.65 1.11,3.97 ; 1.11,3.97 1.43,3.97 ; 1.43,-3.97 1.43,-3.65 ; 1.43,-3.97 1.59,-4.13 ; 1.43,-3.65 1.59,-3.49 ; 1.43,-1.43 1.43,-1.11 ; 1.43,-1.43 1.59,-1.59 ; 1.43,-1.11 1.59,-0.95 ; 1.43,1.11 1.43,1.43 ; 1.43,1.11 1.59,0.95 ; 1.43,1.43 1.59,1.59 ; 1.43,3.65 1.43,3.97 ; 1.43,3.65 1.59,3.49 ; 1.43,3.97 1.59,4.13 ; 1.59,-4.13 1.59,-3.49 ; 1.59,-1.59 1.59,-0.95 ; 1.59,0.95 1.59,1.59 ; 1.59,3.49 1.59,4.13 ; -2.54,-4.826 -2.54,-2.794 -2.286,-2.54 -2.54,-2.286 -2.54,-0.254 -2.286,0 -2.54,0.254 -2.54,2.286 -2.286,2.54 -2.54,2.794 -2.54,4.826 -2.286,5.08 2.286,5.08 2.54,4.826 2.54,2.794 2.286,2.54 2.54,2.286 2.54,0.254 2.286,0 2.54,-0.254 2.54,-2.286 2.286,-2.54 2.54,-2.794 2.54,-4.826 2.286,-5.08 -2.286,-5.08 -2.54,-4.826
Mechanical 15:
  lines w0.05: -3.1,-5.6 3.1,-5.6 3.1,5.6 -3.1,5.6 -3.1,-5.6
  lines w0.1: -0.5,0 0.5,0 ; 0,-0.5 0,0.5
3D body "PinHeader_2x04_P2.54mm_Vertical.step": height 8.54, standoff -3, extent -2.54,-5.08 2.54,5.08

## PLD-12 [mm] "PLD Header, 2.54mm Pitch, 12-Leads"
height 8.54
pads (12):
  rrect20% 1.7x1.7 hole 1.1: 1(-1.27,6.35)
  round 1.7 hole 1.1: 2(1.27,6.35) 3(-1.27,3.81) 4(1.27,3.81) 5(-1.27,1.27) 6(1.27,1.27) 7(-1.27,-1.27) 8(1.27,-1.27) 9(-1.27,-3.81) 10(1.27,-3.81) 11(-1.27,-6.35) 12(1.27,-6.35)
Top Overlay:
  region: -3.095,6.35 -3.961,6.85 -3.961,5.85
  lines w0.2: -2.8,-7.9 -2.8,7.9 2.8,7.9 2.8,-7.9 -2.8,-7.9
Mechanical 1:
  drawing of 194 lines, arcs and shapes, not listed
Mechanical 15:
  lines w0.05: -3.1,-8.2 -3.1,8.2 3.1,8.2 3.1,-8.2 -3.1,-8.2
  lines w0.1: -0.5,0 0.5,0 ; 0,-0.5 0,0.5
3D body "PinHeader_2x06_P2.54mm_Vertical.step": height 8.54, standoff -3, extent -2.54,-7.62 2.54,7.62

## PLD-40 [mm] "PLD Header, 2.54mm Pitch, 40-Leads"
height 8.54
pads (40):
  rrect20% 1.7x1.7 hole 1.1: 1(-1.27,24.13)
  round 1.7 hole 1.1: 2(1.27,24.13) 3(-1.27,21.59) 4(1.27,21.59) 5(-1.27,19.05) 6(1.27,19.05) 7(-1.27,16.51) 8(1.27,16.51) 9(-1.27,13.97) 10(1.27,13.97) 11(-1.27,11.43) 12(1.27,11.43) 13(-1.27,8.89) 14(1.27,8.89) 15(-1.27,6.35) 16(1.27,6.35) 17(-1.27,3.81) 18(1.27,3.81) 19(-1.27,1.27) 20(1.27,1.27) 21(-1.27,-1.27) 22(1.27,-1.27) 23(-1.27,-3.81) 24(1.27,-3.81) 25(-1.27,-6.35) 26(1.27,-6.35) 27(-1.27,-8.89) 28(1.27,-8.89) 29(-1.27,-11.43) 30(1.27,-11.43) 31(-1.27,-13.97) 32(1.27,-13.97) 33(-1.27,-16.51) 34(1.27,-16.51) 35(-1.27,-19.05) 36(1.27,-19.05) 37(-1.27,-21.59) 38(1.27,-21.59) 39(-1.27,-24.13) 40(1.27,-24.13)
Top Overlay:
  region: -3.095,24.13 -3.961,24.63 -3.961,23.63
  lines w0.2: -2.8,-25.68 2.8,-25.68 2.8,25.68 -2.8,25.68 -2.8,-25.68
Mechanical 1:
  drawing of 726 lines, arcs and shapes, not listed
Mechanical 15:
  lines w0.05: -3.1,-25.98 3.1,-25.98 3.1,25.98 -3.1,25.98 -3.1,-25.98
  lines w0.1: -0.5,0 0.5,0 ; 0,-0.5 0,0.5
3D body "PinHeader_2x20_P2.54mm_Vertical.step": height 8.54, standoff -3, extent -2.54,-25.4 2.54,25.4